# Altium footprint library 封装库.PCBLIB: 282 footprints (part 4 of 18)
Each footprint in its own frame and in the unit in brackets; x right, y up, seen from the top. Pads: shape width x height; smd on the part's side, far side on the other; paste and mask are expansions set on the pad; w line width, h text height; cw(c..) or ccw(c..) is an arc to the next point about the centre after c.
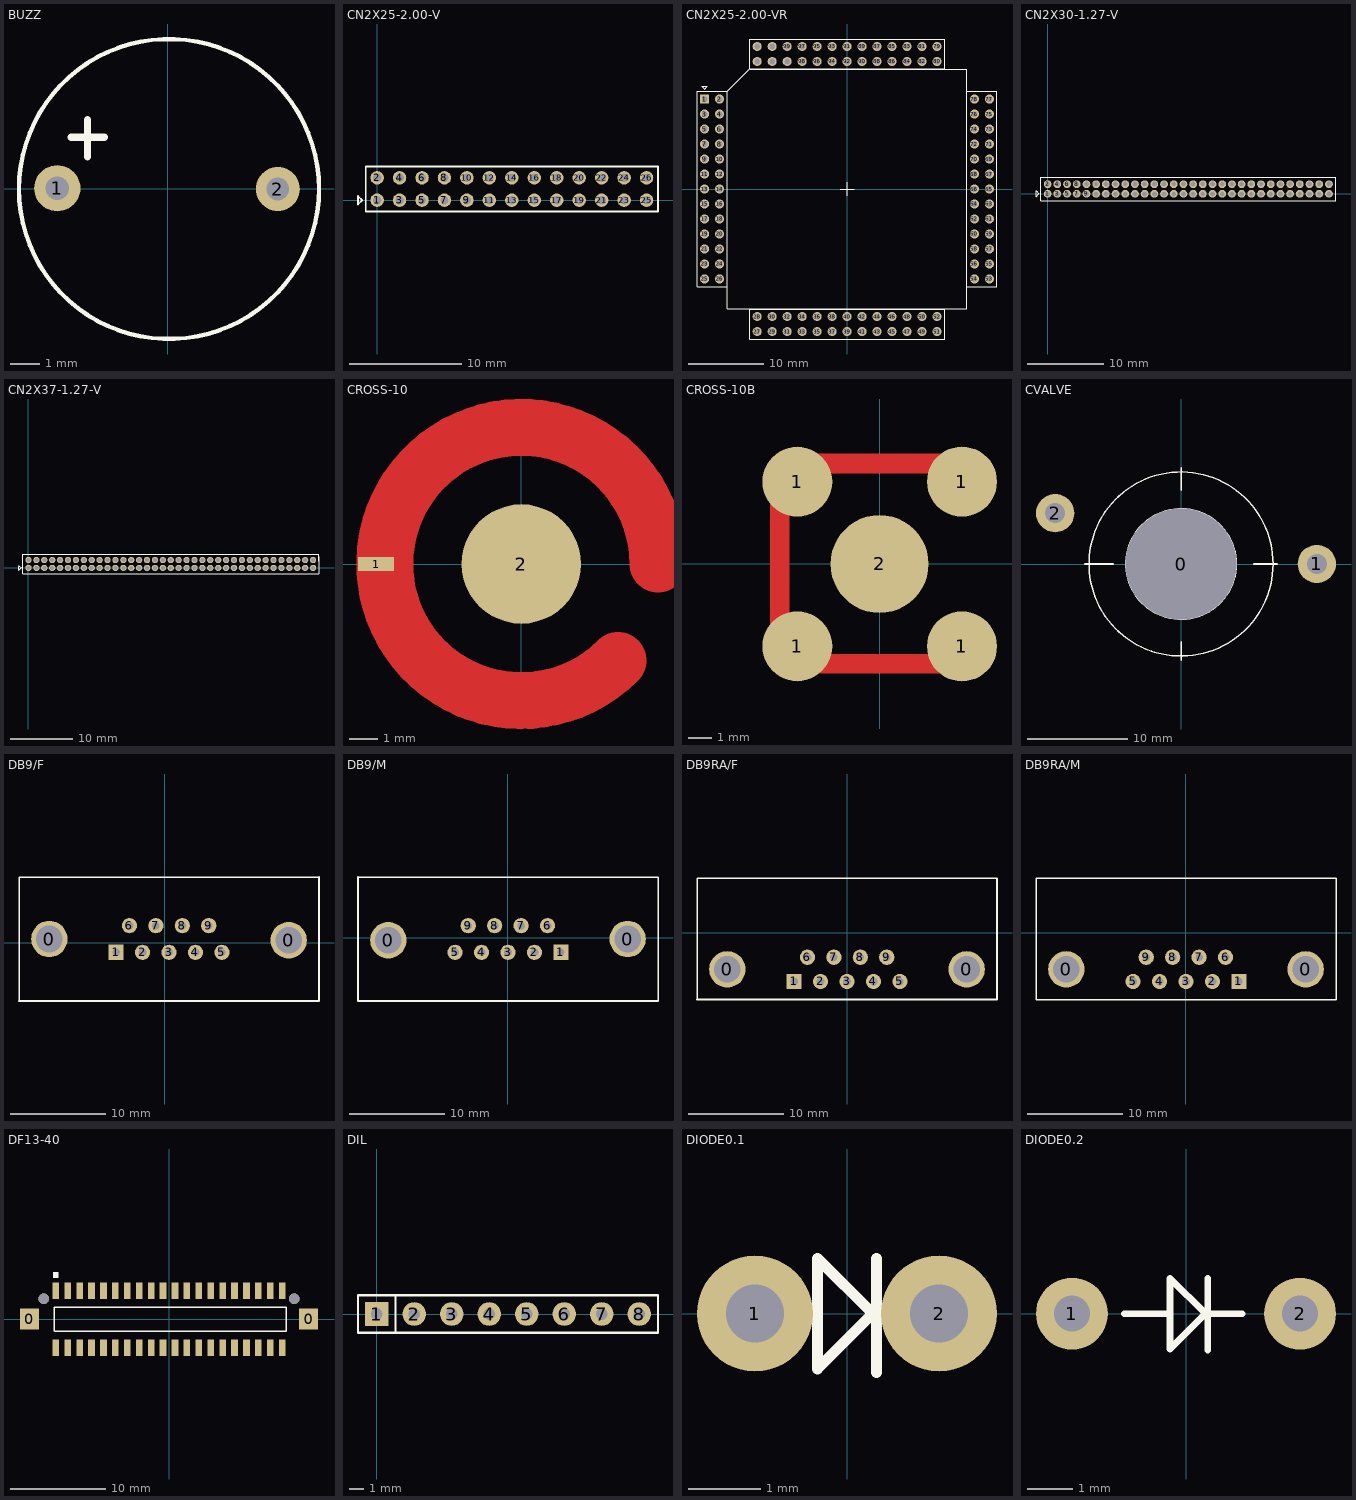
[diagram p3: the footprints below, top view; thin cyan lines are the x and y axes]

## BUZZ [mil]
pads (2):
  round 62.99 hole 31.5: 1(-150,0.5)
  round 60 hole 31: 2(150,-0.5)
TopOverlay:
  circle w6: c1.94,-0.5 r204.06
  lines w10: -131,70 -86,70 ; -109,43 -109,94

## CN2X25-2.00-V [mm] "2.00mm"
pads (26):
  round 1.2 hole 0.75: 1(0,0) 2(0,2) 3(2,0) 4(2,2) 5(4,0) 6(4,2) 7(6,0) 8(6,2) 9(8,0) 10(8,2) 11(10,0) 12(10,2) 13(12,0) 14(12,2) 15(14,0) 16(14,2) 17(16,0) 18(16,2) 19(18,0) 20(18,2) 21(20,0) 22(20,2) 23(22,0) 24(22,2) 25(24,0) 26(24,2)
TopOverlay:
  lines w0.152: -1.702,-0.381 -1.321,0 -1.702,0.381 -1.702,-0.381 ; -1.016,-1 -1.016,3 25.019,3 25.019,-1 -1.016,-1

## CN2X25-2.00-VR [mm] "2.0mm"
pads (104):
  rect 1.2x1.2 hole 0.75: 1(-19.005,12)
  round 1.2 hole 0.75: 2(-17.005,12) 3(-19.005,10) 4(-17.005,10) 5(-19.005,8) 6(-17.005,8) 7(-19.005,6) 8(-17.005,6) 9(-19.005,4) 10(-17.005,4) 11(-19.005,2) 12(-17.005,2) 13(-19.005,0) 14(-17.005,0) 15(-19.005,-2) 16(-17.005,-2) 17(-19.005,-4) 18(-17.005,-4) 19(-19.005,-6) 20(-17.005,-6) 21(-19.005,-8) 22(-17.005,-8) 23(-19.005,-10) 24(-17.005,-10) 25(-19.005,-12) 26(-17.005,-12) 27(-11.987,-19.018) 28(-11.987,-17.018) 29(-9.987,-19.018) 30(-9.987,-17.018) 31(-7.987,-19.018) 32(-7.987,-17.018) 33(-5.987,-19.018) 34(-5.987,-17.018) 35(-3.987,-19.018) 36(-3.987,-17.018) 37(-1.987,-19.018) 38(-1.987,-17.018) 39(0.013,-19.018) 40(0.013,-17.018) 41(2.013,-19.018) 42(2.013,-17.018) 43(4.013,-19.018) 44(4.013,-17.018) 45(6.013,-19.018) 46(6.013,-17.018) 47(8.013,-19.018) 48(8.013,-17.018) 49(10.013,-19.018) 50(10.013,-17.018) 51(12.013,-19.018) 52(12.013,-17.018) 53(19.005,-12) 54(17.005,-12) 55(19.005,-10) 56(17.005,-10) 57(19.005,-8) 58(17.005,-8) 59(19.005,-6) 60(17.005,-6) 61(19.005,-4) 62(17.005,-4) 63(19.005,-2) 64(17.005,-2) 65(19.005,0) 66(17.005,0) 67(19.005,2) 68(17.005,2) 69(19.005,4) 70(17.005,4) 71(19.005,6) 72(17.005,6) 73(19.005,8) 74(17.005,8) 75(19.005,10) 76(17.005,10) 77(19.005,12) 78(17.005,12) 79(12.013,19.018) 80(12.013,17.018) 81(10.013,19.018) 82(10.013,17.018) 83(8.013,19.018) 84(8.013,17.018) 85(6.013,19.018) 86(6.013,17.018) 87(4.013,19.018) 88(4.013,17.018) 89(2.013,19.018) 90(2.013,17.018) 91(0.013,19.018) 92(0.013,17.018) 93(-1.987,19.018) 94(-1.987,17.018) 95(-3.987,19.018) 96(-3.987,17.018) 97(-5.987,19.018) 98(-5.987,17.018) 99(-7.987,19.018) 100(-7.987,17.018) 101(-9.987,19.018) 102(-9.987,17.018) 103(-11.987,19.018) 104(-11.987,17.018)
TopOverlay:
  lines w0.152: -15.989,-16 -15.989,13.016 ; -15.987,-16 16.013,-16 16.013,16 ; -13.022,15.999 -16.005,13.016 ; -13.006,16 16.011,16 ; -0.914,0 0.013,0 ; 0.013,-0.927 0.013,0 ; 0.013,0.927 0.013,0 ; 0.94,0 0.013,0 ; -16.005,13.016 -20.005,13.016 -20.005,-13.019 -16.005,-13.019 -16.005,13.016 ; -13.006,16.018 13.029,16.018 ; -13.006,16.018 13.029,16.018 ; -13.006,16.018 13.029,16.018 ; -13.006,16.018 -13.006,20.018 13.029,20.018 13.029,16.018 ; -19.386,13.702 -19.005,13.321 -18.624,13.702 -19.386,13.702 ; -13.003,-20.018 13.032,-20.018 13.032,-16.018 -13.003,-16.018 -13.003,-20.018 ; 16.005,-13.016 20.005,-13.016 20.005,13.019 16.005,13.019 16.005,-13.016
  lines w0.254: -19.005,-4 -19.005,-3.944

## CN2X30-1.27-V [mil]
pads (60):
  round 40 hole 25: 1(0,0) 2(0,50) 3(50,0) 4(50,50) 5(100,0) 6(100,50) 7(150,0) 8(150,50) 9(200,0) 10(200,50) 11(250,0) 12(250,50) 13(300,0) 14(300,50) 15(350,0) 16(350,50) 17(400,0) 18(400,50) 19(450,0) 20(450,50) 21(500,0) 22(500,50) 23(550,0) 24(550,50) 25(600,0) 26(600,50) 27(650,0) 28(650,50) 29(700,0) 30(700,50) 31(750,0) 32(750,50) 33(800,0) 34(800,50) 35(850,0) 36(850,50) 37(900,0) 38(900,50) 39(950,0) 40(950,50) 41(1000,0) 42(1000,50) 43(1050,0) 44(1050,50) 45(1100,0) 46(1100,50) 47(1150,0) 48(1150,50) 49(1200,0) 50(1200,50) 51(1250,0) 52(1250,50) 53(1300,0) 54(1300,50) 55(1350,0) 56(1350,50) 57(1400,0) 58(1400,50) 59(1450,0) 60(1450,50)
TopOverlay:
  lines w6: -36,-20 -36,86.42 1361,86.42 ; -36,-3 -36,-36 -35.58,-36.42 1368,-36.42 ; 1332.58,-36.42 1460,-36.42 1486.42,-36.42 1486.42,86.25 ; 1332.58,86.42 1450,86.42 1486.58,86.42 ; -60,-15 -60,15 -45,0 -60,-15

## CN2X37-1.27-V [mil]
pads (74):
  round 40 hole 25: 1(0,0) 2(0,50) 3(50,0) 4(50,50) 5(100,0) 6(100,50) 7(150,0) 8(150,50) 9(200,0) 10(200,50) 11(250,0) 12(250,50) 13(300,0) 14(300,50) 15(350,0) 16(350,50) 17(400,0) 18(400,50) 19(450,0) 20(450,50) 21(500,0) 22(500,50) 23(550,0) 24(550,50) 25(600,0) 26(600,50) 27(650,0) 28(650,50) 29(700,0) 30(700,50) 31(750,0) 32(750,50) 33(800,0) 34(800,50) 35(850,0) 36(850,50) 37(900,0) 38(900,50) 39(950,0) 40(950,50) 41(1000,0) 42(1000,50) 43(1050,0) 44(1050,50) 45(1100,0) 46(1100,50) 47(1150,0) 48(1150,50) 49(1200,0) 50(1200,50) 51(1250,0) 52(1250,50) 53(1300,0) 54(1300,50) 55(1350,0) 56(1350,50) 57(1400,0) 58(1400,50) 59(1450,0) 60(1450,50) 61(1500,0) 62(1500,50) 63(1550,0) 64(1550,50) 65(1600,0) 66(1600,50) 67(1650,0) 68(1650,50) 69(1700,0) 70(1700,50) 71(1750,0) 72(1750,50) 73(1800,0) 74(1800,50)
TopOverlay:
  lines w6: -36,-20 -36,86.42 1361,86.42 ; -36,-3 -36,-36 -35.58,-36.42 ; 1332.58,86.42 1450,86.42 1486.58,86.42 1837.58,86.42 1837.58,42 ; 1368,-36.42 -35.58,-36.42 ; 1837.58,72 1837.58,-36.58 -35.42,-36.58 -35.58,-36.42 ; -60,-15 -60,15 -45,0 -60,-15

## CROSS-10 [mm] "CROSS SERIES WITH CENTRAL DIMPLES,10mm"
pads (2):
  rect 1.27x0.508 smd: 1(-5.105,0)
  round 4.2 smd: 2(0,0)
TopLayer:
  lines w2: 3.394,-3.394 cw(c0,0) 4.8,0
TopSolder:
  lines w2.2: 3.394,-3.394 cw(c0,0) 4.8,0

## CROSS-10B [mm] "CROSS SERIES WITH CENTRAL DIMPLES,10mm"
pads (5):
  round 3 smd: 1(-3.526,-3.526) 1(-3.526,3.526) 1(3.531,3.531) 1(3.531,-3.531)
  round 4.2 smd: 2(0,0)
TopLayer:
  region: -3.861,-3.581 -3.861,3.48 -4.699,3.48 -4.699,-3.581
  region: 3.404,4.724 -3.658,4.724 -3.658,3.886 3.404,3.886
  region: 3.861,-3.861 -3.2,-3.861 -3.2,-4.699 3.861,-4.699
TopPaste:
  region: 3.531,4.699 -3.531,4.699 -3.531,3.886 3.531,3.886
  region: -3.861,-3.658 -3.861,3.404 -4.699,3.404 -4.699,-3.658
  rectangle: -3.48,-4.699 3.581,-3.861
TopSolder:
  rectangle: -3.378,3.81 3.708,4.801
  region: -4.801,3.683 -4.801,-3.404 -3.759,-3.404 -3.759,3.683
  region: 3.556,-3.759 -3.531,-3.759 -3.531,-4.801 3.556,-4.801

## CVALVE [mm]
pads (3):
  round 11 hole 11: 0(0,0)
  round 3.81 hole 2: 1(13.499,0.001) 2(-12.518,5.058)
TopOverlay:
  circle w0.152: c-0.001,0.001 r9.15
  circle w0.152: c-0.001,0.001 r5.5
  lines w0.152: -9.576,0 -6.756,0 ; 0,-9.576 0,-7.747 ; 0,7.315 0,9.576 ; 7.239,0 9.576,0
  lines w0.254: -0.001,0.001 1.965,0.001

## DB9/F [mm]
pads (11):
  round 3.81 hole 2.794: 0(-12.065,0.381) 0(12.979,0.254)
  rect 1.6x1.6 hole 0.8: 1(-5.08,-1.016)
  round 1.6 hole 0.8: 2(-2.311,-1.016) 3(0.457,-1.016) 4(3.226,-1.016) 5(5.994,-1.016) 6(-3.683,1.778) 7(-0.914,1.778) 8(1.854,1.778) 9(4.623,1.778)
TopOverlay:
  lines w0.152: -15.24,-6.096 -15.24,6.858 16.154,6.858
  lines w0.203: -15.24,-6.096 16.154,-6.096 16.154,6.858

## DB9/M [mm]
pads (11):
  round 3.81 hole 2.794: 0(-12.471,-0.254) 0(12.573,-0.127)
  rect 1.6x1.6 hole 0.8: 1(5.588,-1.524)
  round 1.6 hole 0.8: 2(2.819,-1.524) 3(0.051,-1.524) 4(-2.718,-1.524) 5(-5.486,-1.524) 6(4.191,1.27) 7(1.422,1.27) 8(-1.346,1.27) 9(-4.115,1.27)
TopOverlay:
  lines w0.152: -15.646,6.35 15.748,6.35 15.748,-6.604
  lines w0.203: -15.646,6.35 -15.646,-6.604 15.748,-6.604

## DB9RA/F [mm]
pads (11):
  round 3.81 hole 2.794: 0(-12.573,-3.81) 0(12.471,-3.81)
  rect 1.6x1.6 hole 0.8: 1(-5.588,-5.08)
  round 1.6 hole 0.8: 2(-2.819,-5.08) 3(-0.051,-5.08) 4(2.718,-5.08) 5(5.486,-5.08) 6(-4.191,-2.54) 7(-1.422,-2.54) 8(1.346,-2.54) 9(4.115,-2.54)
TopOverlay:
  lines w0.152: -15.748,-6.985 -15.748,5.715 15.646,5.715
  lines w0.203: -15.748,-6.985 15.646,-6.985 15.646,5.715

## DB9RA/M [mm]
pads (11):
  round 3.81 hole 2.794: 0(-12.471,-3.81) 0(12.573,-3.81)
  rect 1.6x1.6 hole 0.8: 1(5.588,-5.08)
  round 1.6 hole 0.8: 2(2.819,-5.08) 3(0.051,-5.08) 4(-2.718,-5.08) 5(-5.486,-5.08) 6(4.191,-2.54) 7(1.422,-2.54) 8(-1.346,-2.54) 9(-4.115,-2.54)
TopOverlay:
  lines w0.152: -15.646,-6.985 15.748,-6.985 15.748,5.715 -15.646,5.715 -15.646,-6.985

## DF13-40 [mm]
pads (42):
  rect 2x2.2 smd: 0(-14.63,0) 0(14.63,0)
  rect 0.7x1.7 smd: 1(-11.875,2.997) 2(-11.875,-2.997) 3(-10.625,2.997) 4(-10.625,-2.997) 5(-9.375,2.997) 6(-9.375,-2.997) 7(-8.125,2.997) 8(-8.125,-2.997) 9(-6.875,2.997) 10(-6.875,-2.997) 11(-5.625,2.997) 12(-5.625,-2.997) 13(-4.375,2.997) 14(-4.375,-2.997) 15(-3.125,2.997) 16(-3.125,-2.997) 17(-1.875,2.997) 18(-1.875,-2.997) 19(-0.625,2.997) 20(-0.625,-2.997) 21(0.625,2.997) 22(0.625,-2.997) 23(1.875,2.997) 24(1.875,-2.997) 25(3.125,2.997) 26(3.125,-2.997) 27(4.375,2.997) 28(4.375,-2.997) 29(5.625,2.997) 30(5.625,-2.997) 31(6.875,2.997) 32(6.875,-2.997) 33(8.125,2.997) 34(8.125,-2.997) 35(9.375,2.997) 36(9.375,-2.997) 37(10.625,2.997) 38(10.625,-2.997) 39(11.875,2.997) 40(11.875,-2.997)
via 13.125,2.159 diameter 1.1 hole 1.1
via -13.125,2.15 diameter 1.1 hole 1.1
TopOverlay:
  rectangle: -12.182,4.343 -11.582,4.943
  lines w0.025: -13.125,1.896 -13.125,2.404 ; 13.125,1.896 13.125,2.404
  lines w0.152: -12.009,-1.235 -12.009,1.25 9.804,1.25 ; -11.994,-1.25 7.722,-1.25 ; 7.468,-1.25 12.274,-1.25 ; 9.5,1.25 12.288,1.25 12.288,-1.235

## DIL [mm]
pads (8):
  rect 1.6x1.6 hole 0.8: 1(0,0)
  round 1.6 hole 0.8: 2(2.54,0) 3(5.08,0) 4(7.62,0) 5(10.16,0) 6(12.7,0) 7(15.24,0) 8(17.78,0)
TopOverlay:
  lines w0.152: 1.27,-1.27 1.27,1.27 ; -1.27,-1.27 19.05,-1.27 19.05,1.27 -1.27,1.27 -1.27,-1.27

## DIODE0.1 [mm]
pads (2):
  round 1.6 hole 0.8: 1(-1.27,0) 2(1.27,0)
TopOverlay:
  lines w0.152: 0.406,-0.813 0.406,0.762 ; -0.406,-0.762 -0.406,0.762 0.356,0 -0.406,-0.762

## DIODE0.2 [mm]
pads (2):
  round 1.6 hole 0.8: 1(-2.54,0) 2(2.54,0)
TopOverlay:
  lines w0.152: -1.372,0 -0.864,0 -0.356,0 ; 0.483,-0.813 0.483,0.787 ; 1.245,0 0.432,0 ; -0.356,0 -0.356,0.787 0.432,0 ; -0.356,0 -0.356,-0.787 0.432,0